# Altium footprint library acdc.PcbLib: 23 footprints (part 2 of 2)
Each footprint in its own frame and in the unit in brackets; x right, y up, seen from the top. Pads: shape width x height; smd on the part's side, far side on the other; paste and mask are expansions set on the pad; w line width, h text height; cw(c..) or ccw(c..) is an arc to the next point about the centre after c.
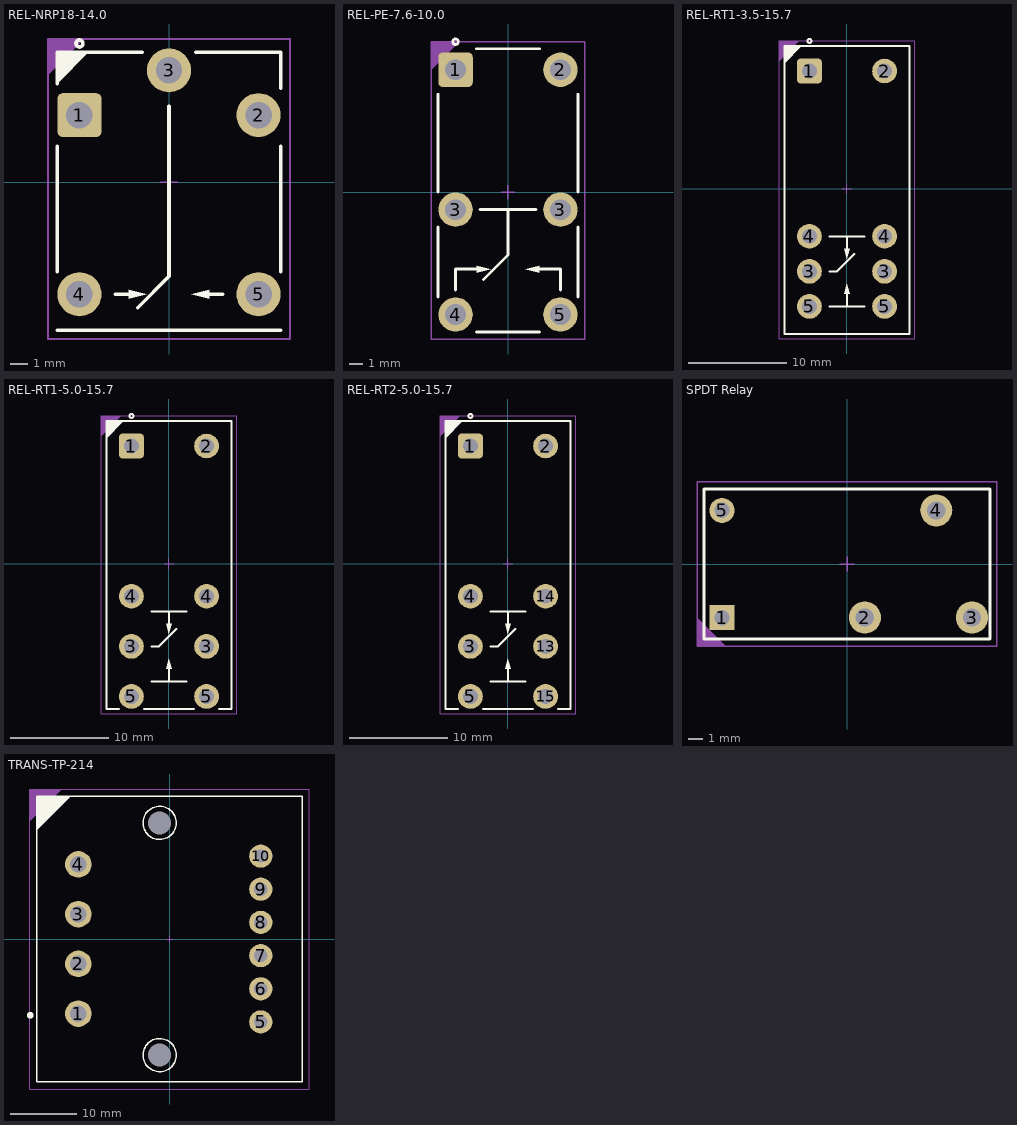
[diagram p1: the footprints below, top view; thin cyan lines are the x and y axes]

## REL-NRP18-14.0 [mm]
pads (5):
  rrect25% 2.5x2.5 hole 1.5: 1(-5.08,3.81)
  round 2.5 hole 1.5: 2(5.08,3.81) 3(0,6.35) 4(-5.08,-6.35) 5(5.08,-6.35)
Top Overlay:
  circle w0.2: c-5.08,7.874 r0.2
  region: -6.35,7.366 -4.572,7.366 -6.35,5.588
  region: 2.286,-6.604 2.286,-6.096 1.27,-6.35
  region: -2.286,-6.604 -2.286,-6.096 -1.27,-6.35
  lines w0.2: -6.35,-8.382 6.35,-8.382 ; -6.35,-5.08 -6.35,2.032 ; -6.35,5.588 -6.35,7.366 -1.524,7.366 ; -3.048,-6.35 -2.286,-6.35 ; -1.778,-7.112 0,-5.334 0,4.318 ; 1.524,7.366 6.35,7.366 6.35,5.334 ; 2.286,-6.35 3.048,-6.35 ; 6.35,-5.08 6.35,2.032
Mechanical 13:
  region: -6.858,8.128 -6.858,6.096 -4.826,8.128
  lines w0.1: -6.858,-8.89 -6.858,8.128 6.858,8.128 6.858,-8.89 -6.858,-8.89
  text ".Designator" at -2.286,-1.016 h2
Mechanical 15:
  lines w0.05: -6.858,-8.89 -6.858,8.128 6.858,8.128 6.858,-8.89 -6.858,-8.89
  lines w0.1: -0.5,0 0.5,0 ; 0,-0.5 0,0.5
3D body: height 14.2, standoff 0.1, extent -6.35,-8.382 6.35,7.366

## REL-PE-7.6-10.0 [mm]
pads (6):
  rrect25% 2.5x2.5 hole 1.5: 1(-3.81,8.89)
  round 2.5 hole 1.5: 2(3.81,8.89) 3(-3.81,-1.27) 3(3.81,-1.27) 4(-3.81,-8.89) 5(3.81,-8.89)
Top Overlay:
  circle w0.2: c-3.81,10.922 r0.2
  region: -2.286,-5.842 -2.286,-5.334 -1.27,-5.588
  region: 2.286,-5.842 2.286,-5.334 1.27,-5.588
  lines w0.2: -5.08,-7.62 -5.08,-2.54 ; -5.08,0 -5.08,7.112 ; -3.81,-7.112 -3.81,-5.588 -2.286,-5.588 ; -2.286,-10.16 2.286,-10.16 ; -2.286,10.414 2.286,10.414 ; -2.032,-1.27 2.032,-1.27 ; -1.778,-6.35 0,-4.572 0,-1.27 ; 2.286,-5.588 3.81,-5.588 3.81,-7.112 ; 5.08,-7.62 5.08,-2.54 ; 5.08,0 5.08,7.112
Mechanical 13:
  region: -5.588,10.922 -5.588,8.89 -3.556,10.922
  lines w0.1: -5.588,-10.668 -5.588,10.922 5.588,10.922 5.588,-10.668 -5.588,-10.668
  text ".Designator" at -1.016,2.286 h2
Mechanical 15:
  lines w0.05: -5.588,-10.668 -5.588,10.922 5.588,10.922 5.588,-10.668 -5.588,-10.668
  lines w0.1: -0.5,0 0.5,0 ; 0,-0.5 0,0.5
3D body: height 10, standoff 0.1, extent -5.08,-10.16 5.08,10.414

## REL-RT1-3.5-15.7 [mm]
pads (8):
  rrect25% 2.5x2.5 hole 1.5: 1(-3.81,11.938)
  round 2.5 hole 1.5: 2(3.81,11.938) 3(-3.81,-8.382) 3(3.81,-8.382) 4(-3.81,-4.826) 4(3.81,-4.826) 5(-3.81,-11.938) 5(3.81,-11.938)
Top Overlay:
  circle w0.2: c-3.81,14.986 r0.2
  region: -6.35,14.478 -4.572,14.478 -6.35,12.7
  region: 0.254,-6.096 -0.254,-6.096 0,-7.112
  region: 0.254,-10.668 -0.254,-10.668 0,-9.652
  lines w0.2: -1.778,-11.938 1.778,-11.938 ; -1.778,-8.382 -1.016,-8.382 0.762,-6.604 ; -1.778,-4.826 1.778,-4.826 ; 0,-11.938 0,-10.668 ; 0,-6.096 0,-4.826 ; -6.35,-14.732 -6.35,14.478 6.35,14.478 6.35,-14.732 -6.35,-14.732
Mechanical 13:
  region: -6.858,14.986 -6.858,12.954 -4.826,14.986
  lines w0.1: -6.858,-15.24 6.858,-15.24 6.858,14.986 -6.858,14.986 -6.858,-15.24
  text ".Designator" at -1.016,1.524 h2
Mechanical 15:
  lines w0.05: -6.858,-15.24 -6.858,14.986 6.858,14.986 6.858,-15.24 -6.858,-15.24
  lines w0.1: -0.5,0 0.5,0 ; 0,-0.5 0,0.5
3D body: height 16, standoff 0.1, extent -6.35,-14.732 6.35,14.478

## REL-RT1-5.0-15.7 [mm]
pads (8):
  rrect25% 2.5x2.5 hole 1.5: 1(-3.81,11.938)
  round 2.5 hole 1.5: 2(3.81,11.938) 3(-3.81,-8.382) 3(3.81,-8.382) 4(-3.81,-3.302) 4(3.81,-3.302) 5(-3.81,-13.462) 5(3.81,-13.462)
Top Overlay:
  circle w0.2: c-3.81,14.986 r0.2
  region: -6.35,14.478 -4.572,14.478 -6.35,12.7
  region: 0.254,-6.096 -0.254,-6.096 0,-7.112
  region: 0.254,-10.668 -0.254,-10.668 0,-9.652
  lines w0.2: -5.08,-14.732 -6.35,-14.732 -6.35,14.478 6.35,14.478 6.35,-14.732 5.08,-14.732 ; -2.54,-14.732 2.54,-14.732 ; -1.778,-11.938 1.778,-11.938 ; -1.778,-8.382 -1.016,-8.382 0.762,-6.604 ; -1.778,-4.826 1.778,-4.826 ; 0,-11.938 0,-10.668 ; 0,-6.096 0,-4.826
Mechanical 13:
  region: -6.858,14.986 -6.858,12.954 -4.826,14.986
  lines w0.1: -6.858,-15.24 -6.858,14.986 6.858,14.986 6.858,-15.24 -6.858,-15.24
  text ".Designator" at -1.016,1.778 h2
Mechanical 15:
  lines w0.05: -6.858,-15.24 -6.858,14.986 6.858,14.986 6.858,-15.24 -6.858,-15.24
  lines w0.1: -0.5,0 0.5,0 ; 0,-0.5 0,0.5
3D body: height 16, standoff 0.1, extent -6.35,-14.732 6.35,14.478

## REL-RT2-5.0-15.7 [mm]
pads (8):
  rrect25% 2.5x2.5 hole 1.5: 1(-3.81,11.938)
  round 2.5 hole 1.5: 2(3.81,11.938) 3(-3.81,-8.382) 4(-3.81,-3.302) 5(-3.81,-13.462) 13(3.81,-8.382) 14(3.81,-3.302) 15(3.81,-13.462)
Top Overlay:
  circle w0.2: c-3.81,14.986 r0.2
  region: 0.254,-10.668 -0.254,-10.668 0,-9.652
  region: 0.254,-6.096 -0.254,-6.096 0,-7.112
  region: -6.35,14.478 -4.572,14.478 -6.35,12.7
  lines w0.2: -5.08,-14.732 -6.35,-14.732 -6.35,14.478 6.35,14.478 6.35,-14.732 5.08,-14.732 ; -2.54,-14.732 2.54,-14.732 ; -1.778,-11.938 1.778,-11.938 ; -1.778,-8.382 -1.016,-8.382 0.762,-6.604 ; -1.778,-4.826 1.778,-4.826 ; 0,-11.938 0,-10.668 ; 0,-6.096 0,-4.826
Mechanical 13:
  region: -6.858,14.986 -6.858,12.954 -4.826,14.986
  lines w0.1: -6.858,-15.24 6.858,-15.24 6.858,14.986 -6.858,14.986 -6.858,-15.24
  text ".Designator" at -1.016,1.778 h2
Mechanical 15:
  lines w0.05: -6.858,-15.24 6.858,-15.24 6.858,14.986 -6.858,14.986 -6.858,-15.24
  lines w0.1: -0.5,0 0.5,0 ; 0,-0.5 0,0.5
3D body: height 16, standoff 0.1, extent -6.35,-14.732 6.35,14.478

## SPDT Relay [mil]
pads (5):
  rect 70x70 hole 43.31: 1(-350,-150.07)
  round 90 hole 51.18: 2(50,-149.93) 3(350,-149.93) 4(250,150.07)
  round 70 hole 43.31: 5(-350,149.93)
Top Overlay:
  lines w7.87: -400,-210 400,-210 400,210 -400,210 -400,-210
Mechanical 13:
  region: -420,-230 -340,-230 -420,-150
  lines w3.94: -420,-230 -420,230 420,230 420,-230 -420,-230
  text ".Designator" at -90,-40 h78.74
Mechanical 15:
  lines w1.97: -420,-230 -420,230 420,230 420,-230 -420,-230
  lines w3.94: -19.68,0 19.68,0 ; 0,-19.69 0,19.68

## TRANS-TP-214 [mm]
pads (12):
  round 0 hole 3.5: 0(-1.5,-17.5) 0(-1.5,17.5)
  round 4 hole 2.5: 1(-13.75,-11.25) 2(-13.75,-3.75) 3(-13.75,3.75) 4(-13.75,11.25)
  round 3.5 hole 2: 5(13.75,-12.5) 6(13.75,-7.5) 7(13.75,-2.5) 8(13.75,2.5) 9(13.75,7.5) 10(13.75,12.5)
Top Overlay:
  circle w0.2: c-1.5,17.5 r2.5
  circle w0.2: c-1.5,-17.5 r2.5
  circle w0.508: c-21,-11.5 r0.254
  region: -20,21.5 -14.92,21.5 -20,16.42
  lines w0.2: -20,-21.5 20,-21.5 20,21.5 -20,21.5 -20,-21.5
Mechanical 13:
  region: -21.082,22.606 -21.082,17.78 -16.256,22.606
  lines w0.1: -21.082,-22.606 -21.082,22.606 21.082,22.606 21.082,-22.606 -21.082,-22.606
  text ".Designator" at -3.556,-2.286 h5
Mechanical 15:
  lines w0.05: -21.082,-22.606 21.082,-22.606 21.082,22.606 -21.082,22.606 -21.082,-22.606
  lines w0.1: -0.5,0 0.5,0 ; 0,-0.5 0,0.5
3D body: height 40, standoff 0.1, extent -20,-21.5 20,21.5